# EAGLE library part USOMIQ-AM335X (library connectors)
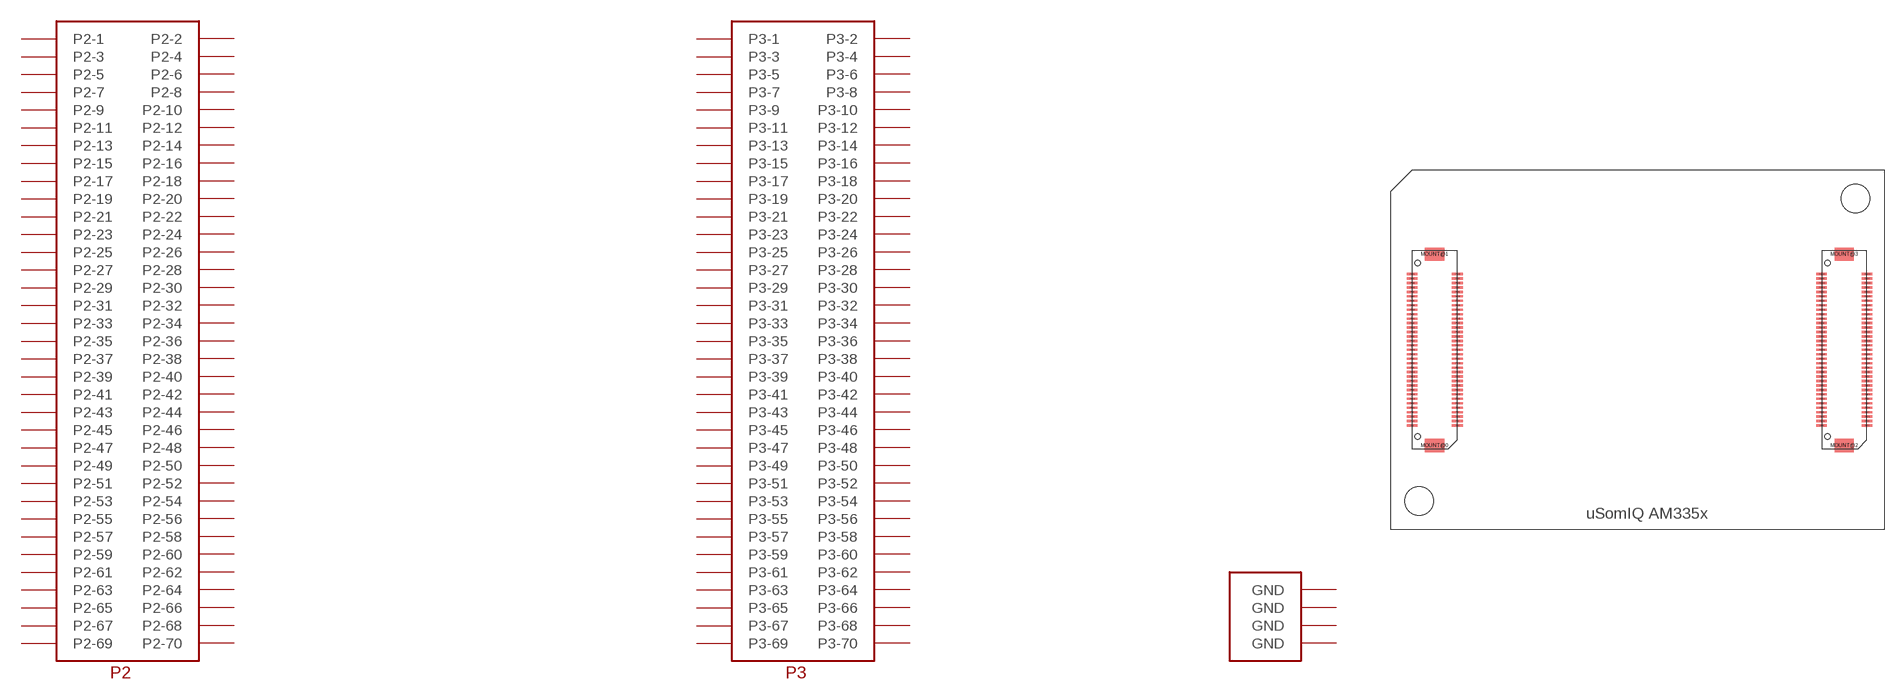
[diagram p0: symbol with the pads of USOMIQ-AM335X; footprint USOMIQ-AM335X]

Designator prefix P

## USOMIQ-AM335X  [USOMIQ-AM335X]
MOUNT@0  GND
MOUNT@1  GND
MOUNT@2  GND
MOUNT@3  GND
P$1  P2-1
P$2  P2-2
P$3  P2-3
P$4  P2-4
P$5  P2-5
P$6  P2-6
P$7  P2-7
P$8  P2-8
P$9  P2-9
P$10  P2-10
P$11  P2-11
P$12  P2-12
P$13  P2-13
P$14  P2-14
P$15  P2-15
P$16  P2-16
P$17  P2-17
P$18  P2-18
P$19  P2-19
P$20  P2-20
P$21  P2-21
P$22  P2-22
P$23  P2-23
P$24  P2-24
P$25  P2-25
P$26  P2-26
P$27  P2-27
P$28  P2-28
P$29  P2-29
P$30  P2-30
P$31  P2-31
P$32  P2-32
P$33  P2-33
P$34  P2-34
P$35  P2-35
P$36  P2-36
P$37  P2-37
P$38  P2-38
P$39  P2-39
P$40  P2-40
P$41  P2-41
P$42  P2-42
P$43  P2-43
P$44  P2-44
P$45  P2-45
P$46  P2-46
P$47  P2-47
P$48  P2-48
P$49  P2-49
P$50  P2-50
P$51  P2-51
P$52  P2-52
P$53  P2-53
P$54  P2-54
P$55  P2-55
P$56  P2-56
P$57  P2-57
P$58  P2-58
P$59  P2-59
P$60  P2-60
P$61  P2-61
P$62  P2-62
P$63  P2-63
P$64  P2-64
P$65  P2-65
P$66  P2-66
P$67  P2-67
P$68  P2-68
P$69  P2-69
P$70  P2-70
P$71  P3-1
P$72  P3-2
P$73  P3-3
P$74  P3-4
P$75  P3-5
P$76  P3-6
P$77  P3-7
P$78  P3-8
P$79  P3-9
P$80  P3-10
P$81  P3-11
P$82  P3-12
P$83  P3-13
P$84  P3-14
P$85  P3-15
P$86  P3-16
P$87  P3-17
P$88  P3-18
P$89  P3-19
P$90  P3-20
P$91  P3-21
P$92  P3-22
P$93  P3-23
P$94  P3-24
P$95  P3-25
P$96  P3-26
P$97  P3-27
P$98  P3-28
P$99  P3-29
P$100  P3-30
P$101  P3-31
P$102  P3-32
P$103  P3-33
P$104  P3-34
P$105  P3-35
P$106  P3-36
P$107  P3-37
P$108  P3-38
P$109  P3-39
P$110  P3-40
P$111  P3-41
P$112  P3-42
P$113  P3-43
P$114  P3-44
P$115  P3-45
P$116  P3-46
P$117  P3-47
P$118  P3-48
P$119  P3-49
P$120  P3-50
P$121  P3-51
P$122  P3-52
P$123  P3-53
P$124  P3-54
P$125  P3-55
P$126  P3-56
P$127  P3-57
P$128  P3-58
P$129  P3-59
P$130  P3-60
P$131  P3-61
P$132  P3-62
P$133  P3-63
P$134  P3-64
P$135  P3-65
P$136  P3-66
P$137  P3-67
P$138  P3-68
P$139  P3-69
P$140  P3-70

## Footprint USOMIQ-AM335X (pad centres in mm)
smd 2.15 x 1.475: MOUNT@0 0,-10.738; MOUNT@1 0,10.738; MOUNT@2 46,-10.738; MOUNT@3 46,10.738
smd 1.188 x 0.25: P$1 2.55,-8.5; P$2 -2.55,-8.5; P$3 2.55,-8; P$4 -2.55,-8; P$5 2.55,-7.5; P$6 -2.55,-7.5; P$7 2.55,-7; P$8 -2.55,-7; P$9 2.55,-6.5; P$10 -2.55,-6.5; P$11 2.55,-6; P$12 -2.55,-6; P$13 2.55,-5.5; P$14 -2.55,-5.5; P$15 2.55,-5; P$16 -2.55,-5; P$17 2.55,-4.5; P$18 -2.55,-4.5; P$19 2.55,-4; P$20 -2.55,-4; P$21 2.55,-3.5; P$22 -2.55,-3.5; P$23 2.55,-3; P$24 -2.55,-3; P$25 2.55,-2.5; P$26 -2.55,-2.5; P$27 2.55,-2; P$28 -2.55,-2; P$29 2.55,-1.5; P$30 -2.55,-1.5; P$31 2.55,-1; P$32 -2.55,-1; P$33 2.55,-0.5; P$34 -2.55,-0.5; P$35 2.55,0; P$36 -2.55,0; P$37 2.55,0.5; P$38 -2.55,0.5; P$39 2.55,1; P$40 -2.55,1; P$41 2.55,1.5; P$42 -2.55,1.5; P$43 2.55,2; P$44 -2.55,2; P$45 2.55,2.5; P$46 -2.55,2.5; P$47 2.55,3; P$48 -2.55,3; P$49 2.55,3.5; P$50 -2.55,3.5; P$51 2.55,4; P$52 -2.55,4; P$53 2.55,4.5; P$54 -2.55,4.5; P$55 2.55,5; P$56 -2.55,5; P$57 2.55,5.5; P$58 -2.55,5.5; P$59 2.55,6; P$60 -2.55,6; P$61 2.55,6.5; P$62 -2.55,6.5; P$63 2.55,7; P$64 -2.55,7; P$65 2.55,7.5; P$66 -2.55,7.5; P$67 2.55,8; P$68 -2.55,8; P$69 2.55,8.5; P$70 -2.55,8.5; P$71 48.55,-8.5; P$72 43.45,-8.5; P$73 48.55,-8; P$74 43.45,-8; P$75 48.55,-7.5; P$76 43.45,-7.5; P$77 48.55,-7; P$78 43.45,-7; P$79 48.55,-6.5; P$80 43.45,-6.5; P$81 48.55,-6; P$82 43.45,-6; P$83 48.55,-5.5; P$84 43.45,-5.5; P$85 48.55,-5; P$86 43.45,-5; P$87 48.55,-4.5; P$88 43.45,-4.5; P$89 48.55,-4; P$90 43.45,-4; P$91 48.55,-3.5; P$92 43.45,-3.5; P$93 48.55,-3; P$94 43.45,-3; P$95 48.55,-2.5; P$96 43.45,-2.5; P$97 48.55,-2; P$98 43.45,-2; P$99 48.55,-1.5; P$100 43.45,-1.5; P$101 48.55,-1; P$102 43.45,-1; P$103 48.55,-0.5; P$104 43.45,-0.5; P$105 48.55,0; P$106 43.45,0; P$107 48.55,0.5; P$108 43.45,0.5; P$109 48.55,1; P$110 43.45,1; P$111 48.55,1.5; P$112 43.45,1.5; P$113 48.55,2; P$114 43.45,2; P$115 48.55,2.5; P$116 43.45,2.5; P$117 48.55,3; P$118 43.45,3; P$119 48.55,3.5; P$120 43.45,3.5; P$121 48.55,4; P$122 43.45,4; P$123 48.55,4.5; P$124 43.45,4.5; P$125 48.55,5; P$126 43.45,5; P$127 48.55,5.5; P$128 43.45,5.5; P$129 48.55,6; P$130 43.45,6; P$131 48.55,6.5; P$132 43.45,6.5; P$133 48.55,7; P$134 43.45,7; P$135 48.55,7.5; P$136 43.45,7.5; P$137 48.55,8; P$138 43.45,8; P$139 48.55,8.5; P$140 43.45,8.5
hole 0.625 at -1.9,-9.75
hole 0.625 at -1.9,9.75
hole 0.625 at 44.1,-9.75
hole 0.625 at 44.1,9.75
hole 3.2 at -1.725,-17
hole 3.2 at 47.275,17